# EAGLE library part TSM931 (library PR_Parts_Library)
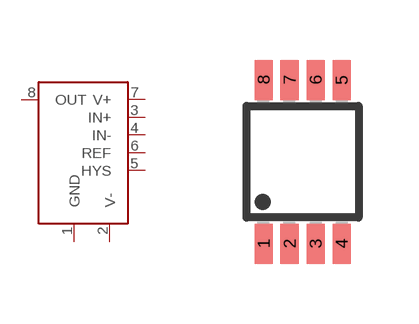
[diagram p7: symbol with the pads of MSOP8; footprint MSOP8]

Designator prefix -

## TSM931  [MSOP8]
1  GND
2  V-
3  IN+
4  IN-
5  HYS
6  REF
7  V+
8  OUT

## Footprint MSOP8 (pad centres in mm)
Micro Small Outline Package
smd 0.45 x 1: 1 -0.975,-2.05; 2 -0.325,-2.05; 3 0.325,-2.05; 4 0.975,-2.05; 5 0.975,2.05; 6 0.325,2.05; 7 -0.325,2.05; 8 -0.975,2.05